# Altium footprint library PcbLib.PcbLib: 5 footprints
Each footprint in its own frame and in the unit in brackets; x right, y up, seen from the top. Pads: shape width x height; smd on the part's side, far side on the other; paste and mask are expansions set on the pad; w line width, h text height; cw(c..) or ccw(c..) is an arc to the next point about the centre after c.
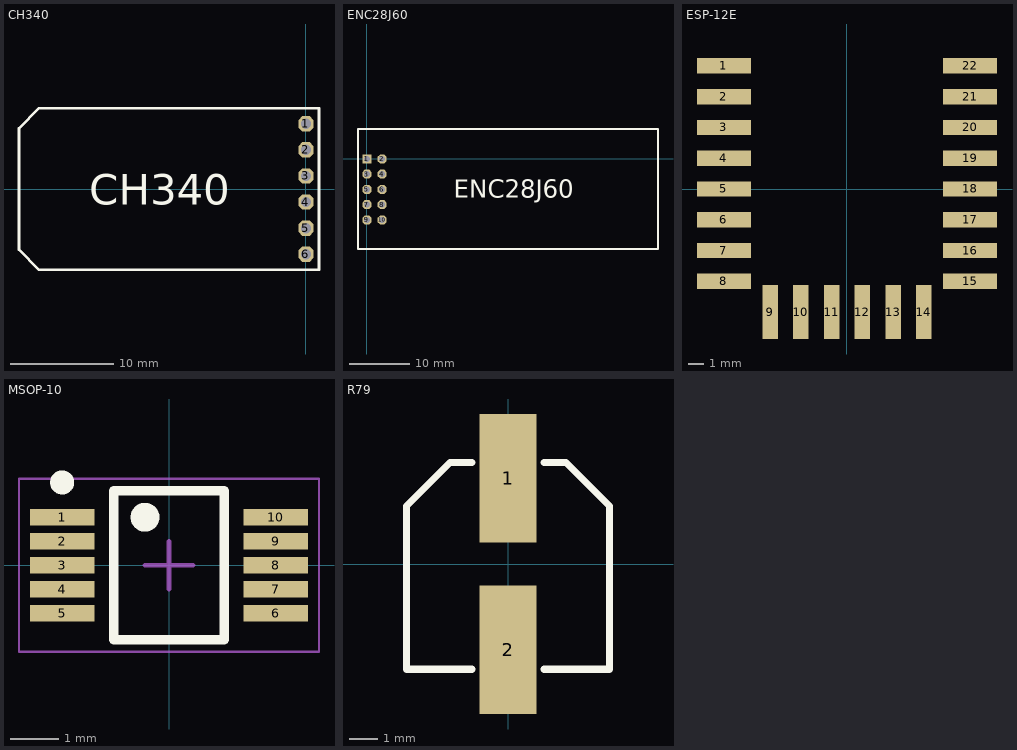
[diagram p0: the footprints below, top view; thin cyan lines are the x and y axes]

## CH340 [mm]
pads (6):
  oct 1.5x1.5 hole 1: 1(0,6.35) 2(0,3.81) 3(0,1.27) 4(0,-1.27) 5(0,-3.81) 6(0,-6.35)
Top Overlay:
  lines w0.254: -27.94,-5.91 -25.976,-7.874 1.27,-7.874 1.27,7.874 -25.976,7.874 -27.94,5.91 -27.94,-5.91
  text "CH340" at -21.082,-1.524 h3
3D body "female_header_a-bl254-eg-g06d.stp": height 8.5, standoff -3.2, extent -1.25,-7.743 1.25,7.747

## ENC28J60 [mm]
pads (10):
  rect 1.5x1.5 hole 1: 1(0,0)
  oct 1.5x1.5 hole 1: 2(2.54,0) 3(0,-2.54) 4(2.54,-2.54) 5(0,-5.08) 6(2.54,-5.08) 7(0,-7.62) 8(2.54,-7.62) 9(0,-10.16) 10(2.54,-10.16)
Top Overlay:
  lines w0.254: -1.5,-15 -1.5,5 48.5,5 48.5,-15 -1.5,-15
  text "ENC28J60" at 14.5,-6.5 h3

## ESP-12E [mm]
pads (22):
  rect 3.5x1 smd: 1(-8,8) 2(-8,6) 3(-8,4) 4(-8,2) 5(-8,0) 6(-8,-2) 7(-8,-4) 8(-8,-6) 15(8,-6) 16(8,-4) 17(8,-2) 18(8,0) 19(8,2) 20(8,4) 21(8,6) 22(8,8)
  rect 1x3.5 smd: 9(-5,-8) 10(-3,-8) 11(-1,-8) 12(1,-8) 13(3,-8) 14(5,-8)
3D body "User Library-ESP-12E.step": height 2.65, standoff -0.04, extent -8.005,-7.505 8.005,16.5

## MSOP-10 [mm]
height 1.1
pads (10):
  rect 1.35x0.35 smd: 1(-2.225,1) 2(-2.225,0.5) 3(-2.225,0) 4(-2.225,-0.5) 5(-2.225,-1) 6(2.225,-1) 7(2.225,-0.5) 8(2.225,0) 9(2.225,0.5) 10(2.225,1)
Top Overlay:
  circle w0.25: c-2.225,1.725 r0.125
  circle w0.3: c-0.5,1 r0.15
  lines w0.2: -1.15,-1.55 -1.15,1.55 1.15,1.55 1.15,-1.55 -1.15,-1.55
Mechanical 15:
  lines w0.05: -3.125,-1.8 -3.125,1.8 3.125,1.8 3.125,-1.8 -3.125,-1.8
  lines w0.1: -0.5,0 0.5,0 ; 0,-0.5 0,0.5
3D body "User Library-MSOP-10-1.step": height 1.05, standoff 0, extent -2.498,-1.5 2.529,1.5

## R79 [mm]
pads (2):
  rect 2x4.5 smd: 1(0,3) 2(0,-3)
Top Overlay:
  lines w0.254: -1.27,-3.683 -3.556,-3.683 -3.556,2.032 -2.032,3.556 -1.27,3.556 ; 1.27,-3.683 3.556,-3.683 3.556,2.032 2.032,3.556 1.27,3.556
3D body "User Library-CAPSMD6_3x3_9.STEP": height 3.91, standoff 0, extent -3.302,-3.5 3.298,3.5